# Altium schematic symbol library 1N5819HWQ-7-F.SchLib: 1 symbol
Pins are listed as number, name and electrical type; pins without a type are passive.

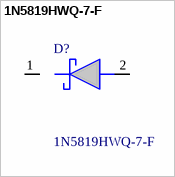
[diagram p0: symbol 1N5819HWQ-7-F]

## 1N5819HWQ-7-F
designator D?
Schottky Diodes & Rectifiers Schottky Rectifier; Manufacturer_Name: Diodes Incorporated; Geometry.Height: 1.45mm; Manufacturer_Part_Number: 1N5819HWQ-7-F; Mouser Part Number: 621-1N5819HWQ-7-F; Mouser Price/Stock: https://www.mouser.co.uk/ProductDetail/Diodes-Incorporated/1N5819HWQ-7-F?qs=gZXFycFWdAPDr8BmsK1ygg%3D%3D; Arrow Part Number: 1N5819HWQ-7-F; Arrow Price/Stock: https://www.arrow.com/en/products/1n5819hwq-7-f/diodes-incorporated?region=asia; Datasheet Link: https://eu.mouser.com/datasheet/2/115/ds30217-1532212.pdf
footprint SOD3716X145N
pins: 1 K, 2 A